# Altium integrated library TS2B_Bridge.IntLib: 1 symbol
Pins are listed as number, name and electrical type; pins without a type are passive.

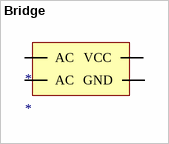
[diagram p0: symbol Bridge]

## Bridge
designator *
footprint T2SB_bridge
pins: 1 AC, 2 AC, 3 VCC, 4 GND